# Altium footprint library FPGA-ShowBoard-PcbLib.PcbLib: 3 footprints
Each footprint in its own frame and in the unit in brackets; x right, y up, seen from the top. Pads: shape width x height; smd on the part's side, far side on the other; paste and mask are expansions set on the pad; w line width, h text height; cw(c..) or ccw(c..) is an arc to the next point about the centre after c.
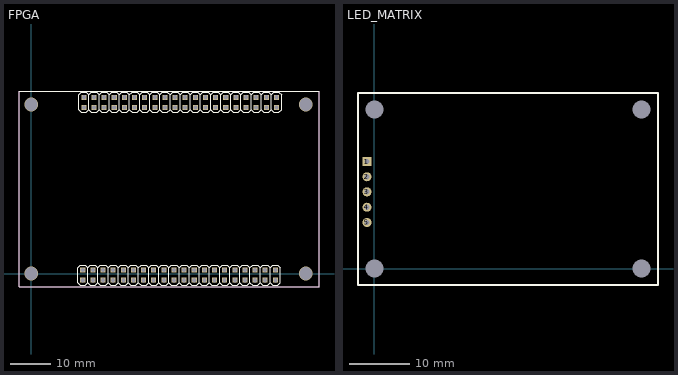
[diagram p0: the footprints below, top view; thin cyan lines are the x and y axes]

## FPGA [mil]
pads (80):
  rect 49.8x49.8 hole 40: 1(520,1640) 1(2409.05,34.92) 2(520,1740) 2(2409.05,-65.08) 3(620,1640) 3(2309.05,34.92) 4(620,1740) 4(2309.05,-65.08) 5(720,1640) 5(2209.03,34.92) 6(720,1740) 6(2209.03,-65.08) 7(820,1640) 7(2109.03,34.92) 8(820,1740) 8(2109.03,-65.08) 9(920,1640) 9(2009.03,34.92) 10(920,1740) 10(2009.03,-65.08) 11(1020,1640) 11(1909.05,34.92) 12(1020,1740) 12(1909.05,-65.08) 13(1120,1640) 13(1809.05,34.92) 14(1120,1740) 14(1809.05,-65.08) 15(1220,1640) 15(1709.05,34.92) 16(1220,1740) 16(1709.05,-65.08) 17(1320,1640) 17(1609.05,34.92) 18(1320,1740) 18(1609.05,-65.08) 19(1420,1640) 19(1509.05,34.92) 20(1420,1740) 20(1509.05,-65.08) 21(1409.05,34.92) 21(1520,1640) 22(1409.05,-65.08) 22(1520,1740) 23(1309.05,34.92) 23(1620,1640) 24(1309.05,-65.08) 24(1620,1740) 25(1209.05,34.92) 25(1720,1640) 26(1209.05,-65.08) 26(1720,1740) 27(1109.05,34.92) 27(1820,1640) 28(1109.05,-65.08) 28(1820,1740) 29(1009.05,34.92) 29(1920,1640) 30(1009.05,-65.08) 30(1920,1740) 31(909.03,34.92) 31(2020,1640) 32(909.03,-65.08) 32(2020,1740) 33(809.03,34.92) 33(2120,1640) 34(809.03,-65.08) 34(2120,1740) 35(709.03,34.92) 35(2220,1640) 36(709.03,-65.08) 36(2220,1740) 37(609.03,34.92) 37(2320,1640) 38(609.03,-65.08) 38(2320,1740) 39(509.03,34.92) 39(2420,1640) 40(509.03,-65.08) 40(2420,1740)
via 0,1670 diameter 135.8 hole 126
via 0,0 diameter 135.8 hole 126
via 2710,0 diameter 135.8 hole 126
via 2710,1670 diameter 135.8 hole 126
Top Overlay:
  drawing of 286 lines, arcs and shapes, not listed
Keep-Out Layer:
  lines w6: -120,-130 2840,-130 2840,1800 -120,1800 -120,-130

## LED_MATRIX [mm] "Connector; Header; 5 Position"
pads (9):
  rect 1.5x1.5 hole 0.9: 1(-1.25,17.83)
  round 1.5 hole 0.9: 2(-1.25,15.29) 3(-1.25,12.77) 4(-1.25,10.21) 5(-1.25,7.67)
  round 0 hole 3 unplated: 10(0,0) 10(0,26.5) 10(44.5,0) 10(44.5,26.5)
Top Overlay:
  lines w0.254: -2.75,-2.75 47.25,-2.75 47.25,29.25 -2.75,29.25 -2.75,-2.75
3D body "MAX7219 8x8 LED Dot Matrix Display Module.STEP": height 13.68, standoff -2.32, extent -5.5,-2.756 49.64,29.756

## PCBComponent_1 [mil]